# Altium footprint library 75867-132LF.PcbLib: 1 footprints
Each footprint in its own frame and in the unit in brackets; x right, y up, seen from the top. Pads: shape width x height; smd on the part's side, far side on the other; paste and mask are expansions set on the pad; w line width, h text height; cw(c..) or ccw(c..) is an arc to the next point about the centre after c.
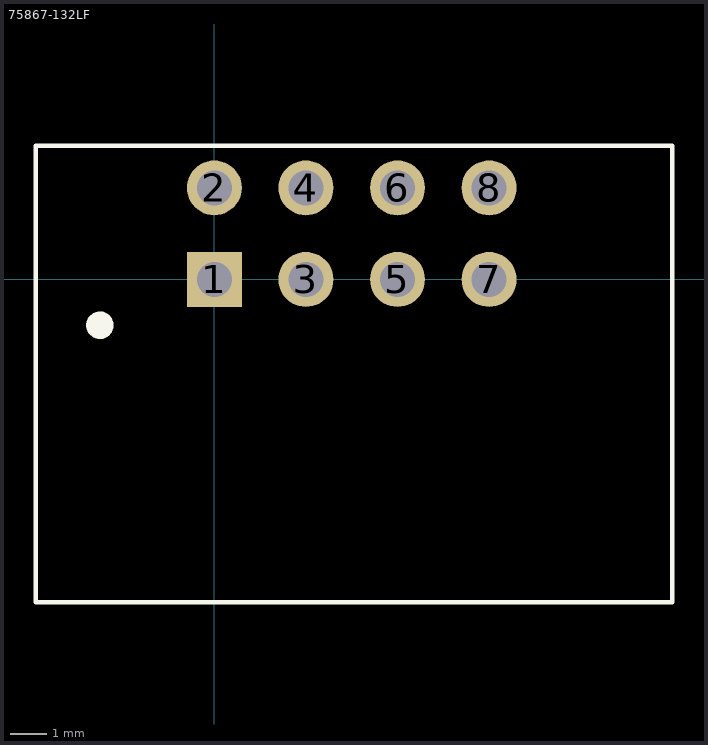
[diagram p0: the footprint, top view; thin cyan lines are the x and y axes]

## 75867-132LF [mil]
pads (8):
  rect 60x60 hole 38: 1(0,0)
  round 60 hole 38: 2(0,100) 3(100,0) 4(100,100) 5(200,0) 6(200,100) 7(300,0) 8(300,100)
Top Overlay:
  circle w10: c-125,-50 r10
  circle w10: c-123.46,-50 r4.92
  lines w5: -195,-352.5 500,-352.5 500,146 -195,146 -195,-352.5
3D body "75867_y32_asm.stp": height 373.04, standoff -112.82, extent -189.43,-439.5 494.43,110.5